# EAGLE library part ORG447X (library balto)
Origin ORG447x Fully integrated GPS Module
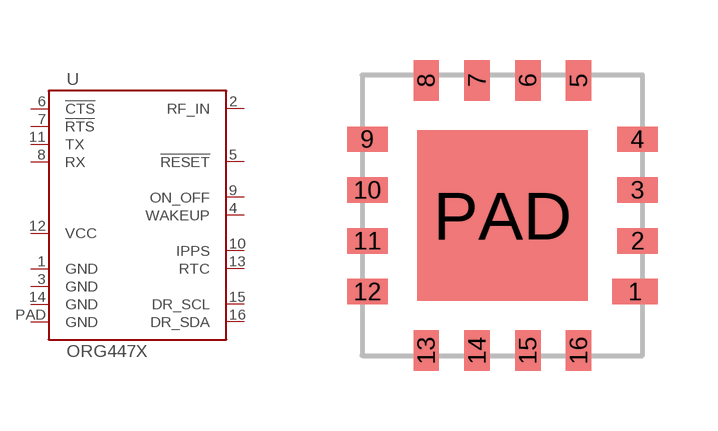
[diagram p25: symbol with the pads of ORG447X; footprint ORG447X]

Designator prefix U

## ORG447X  [ORG447X]
1  GND
2  RF_IN
3  GND
4  WAKEUP
5  !RESET
6  !CTS
7  !RTS
8  RX
9  ON_OFF
10  IPPS
11  TX
12  VCC
13  RTC
14  GND
15  DR_SCL
16  DR_SDA
PAD  GND

## Footprint ORG447X (pad centres in mm)
smd 1.143 x 0.635: 1 3.315,-1.905
smd 1.016 x 0.635: 2 3.378,-0.635; 3 3.378,0.635; 4 3.378,1.905; 9 -3.378,1.905; 10 -3.378,0.635; 11 -3.378,-0.635; 12 -3.378,-1.905
smd 0.635 x 1.016: 5 1.905,3.378; 6 0.635,3.378; 7 -0.635,3.378; 8 -1.905,3.378; 13 -1.905,-3.378; 14 -0.635,-3.378; 15 0.635,-3.378; 16 1.905,-3.378
smd 4.267 x 4.267: PAD 0,0